# Altium footprint library SamacSys.PcbLib: 17 footprints (part 1 of 2)
Each footprint in its own frame and in the unit in brackets; x right, y up, seen from the top. Pads: shape width x height; smd on the part's side, far side on the other; paste and mask are expansions set on the pad; w line width, h text height; cw(c..) or ccw(c..) is an arc to the next point about the centre after c.
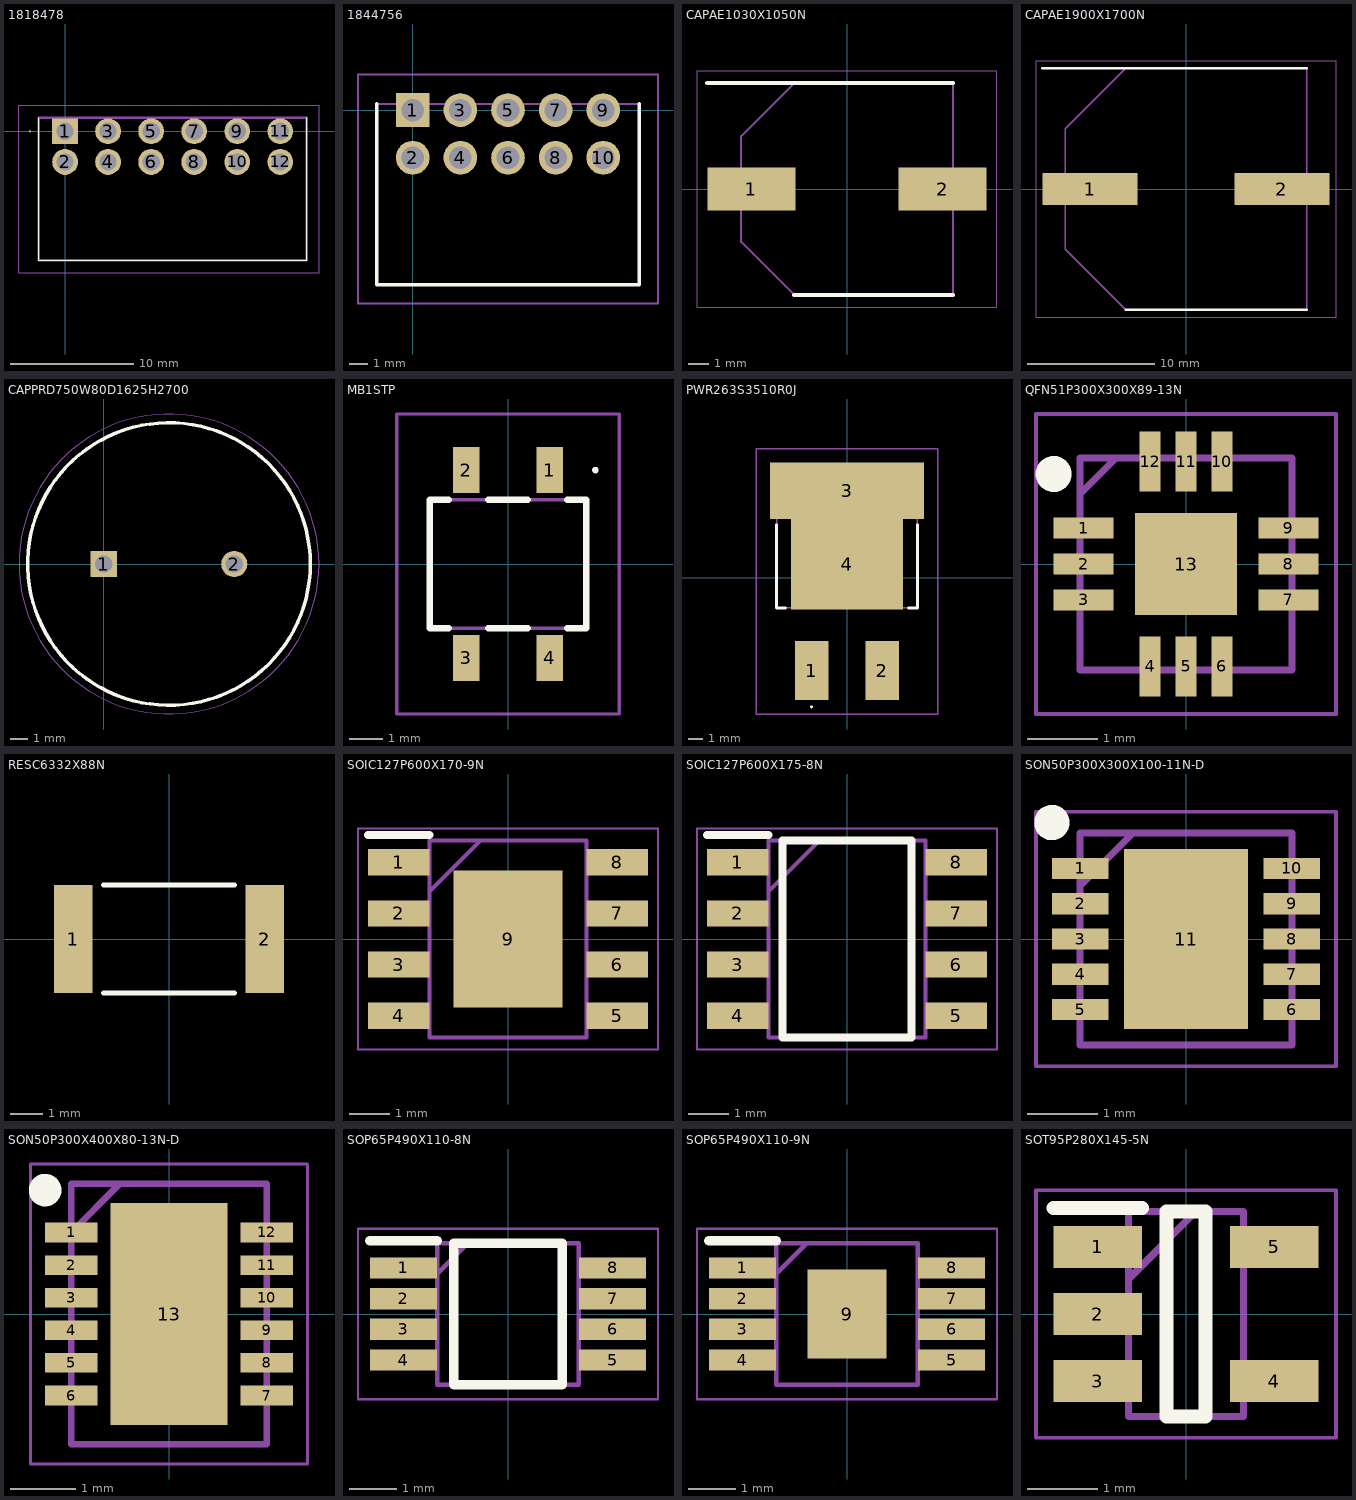
[diagram p0: the footprints below, top view; thin cyan lines are the x and y axes]

## 1818478 [mm]
pads (12):
  rect 2.1x2.1 hole 1.4: 1(0,0)
  round 2.1 hole 1.4: 2(0,-2.5) 3(3.5,0) 4(3.5,-2.5) 5(7,0) 6(7,-2.5) 7(10.5,0) 8(10.5,-2.5) 9(14,0) 10(14,-2.5) 11(17.5,0) 12(17.5,-2.5)
Top Overlay:
  lines w0.05: -2.875,0 cw(c-2.85,0) -2.825,0 cw(c-2.85,0) -2.875,0
  lines w0.1: -2.15,1.1 -2.15,-10.5 19.65,-10.5 19.65,1.1
Mechanical 13:
  lines w0.2: -2.15,-10.5 -2.15,1.1 19.65,1.1 19.65,-10.5 -2.15,-10.5
Mechanical 15:
  lines w0.05: -3.75,-11.5 -3.75,2.1 20.65,2.1 20.65,-11.5 -3.75,-11.5
3D body "1818478.stp": height 10.69, standoff -2.11, extent -2.27,-10.51 19.53,1.09

## 1844756 [mm]
pads (10):
  rect 1.8x1.8 hole 1.2: 1(0,0)
  round 1.8 hole 1.2: 2(0,-2.54) 3(2.54,0) 4(2.54,-2.54) 5(5.08,0) 6(5.08,-2.54) 7(7.62,0) 8(7.62,-2.54) 9(10.16,0) 10(10.16,-2.54)
Top Overlay:
  lines w0.2: -1.92,0.32 -1.92,-9.32 12.08,-9.32 12.08,0 12.08,0.32
Mechanical 13:
  lines w0.1: -1.92,-9.32 -1.92,0.32 12.08,0.32 12.08,-9.32 -1.92,-9.32
Mechanical 15:
  lines w0.1: -2.92,-10.32 -2.92,1.9 13.08,1.9 13.08,-10.32 -2.92,-10.32
3D body "1844756.stp": height 7.42, standoff -1.97, extent -1.92,-9.28 12.08,0.64

## CAPAE1030X1050N [mm]
pads (2):
  rect 4.3x2.1 smd: 1(-4.65,0) 2(4.65,0)
Top Overlay:
  lines w0.2: -6.8,5.15 5.15,5.15 ; -2.575,-5.15 5.15,-5.15
Mechanical 13:
  lines w0.1: -5.15,-2.575 -2.575,-5.15 5.15,-5.15 5.15,5.15 -2.575,5.15 -5.15,2.575 -5.15,-2.575
Mechanical 15:
  lines w0.05: -7.3,-5.75 -7.3,5.75 7.3,5.75 7.3,-5.75 -7.3,-5.75
3D body "ATB687M016.stp": height 10.5, standoff 0, extent -6,-5.25 6,5.25

## CAPAE1900X1700N [mm]
pads (2):
  rect 7.5x2.5 smd: 1(-7.55,0) 2(7.55,0)
Top Overlay:
  lines w0.2: -11.3,9.5 9.5,9.5 ; -4.75,-9.5 9.5,-9.5
Mechanical 13:
  lines w0.1: -9.5,-4.75 -4.75,-9.5 9.5,-9.5 9.5,9.5 -4.75,9.5 -9.5,4.75 -9.5,-4.75
Mechanical 15:
  lines w0.05: -11.8,-10.1 -11.8,10.1 11.8,10.1 11.8,-10.1 -11.8,-10.1
3D body "ATB108M050L165.stp": height 17, standoff 0, extent -10.5,-9.6 10.5,9.6

## CAPPRD750W80D1625H2700 [mm]
pads (2):
  rect 1.5x1.5 hole 1: 1(0,0)
  round 1.5 hole 1: 2(7.5,0)
Top Overlay:
  circle w0.2: c3.75,0 r8.125
Mechanical 13:
  circle w0.1: c3.75,0 r8.125
Mechanical 15:
  circle w0.05: c3.75,0 r8.625
3D body "108CKE063M.stp": height 27, standoff -10, extent -4.5,-8.25 12,8.25

## MB1STP [mm]
pads (4):
  rect 0.8x1.4 smd: 1(1.27,2.85) 2(-1.27,2.85) 3(-1.27,-2.85) 4(1.27,-2.85)
Top Overlay:
  lines w0.1: 2.6,2.85 cw(c2.65,2.85) 2.7,2.85 cw(c2.65,2.85) 2.6,2.85
  lines w0.2: -1.8,-1.95 -2.375,-1.95 -2.375,1.95 -1.8,1.95 ; -0.6,-1.95 0.6,-1.95 ; -0.6,1.95 0.6,1.95 ; 1.8,-1.95 2.375,-1.95 2.375,1.95 1.8,1.95
Mechanical 13:
  lines w0.1: -2.375,-1.95 2.375,-1.95 2.375,1.95 -2.375,1.95 -2.375,-1.95
Mechanical 15:
  lines w0.1: -3.375,-4.55 3.375,-4.55 3.375,4.55 -3.375,4.55 -3.375,-4.55

## PWR263S3510R0J [mm]
pads (4):
  rect 2.4x4.23 smd: 1(-2.54,-6.643) 2(2.54,-6.643)
  rect 11x4.02 smd: 3(0,6.232)
  rect 8x6.5 smd: 4(0,0.973)
Top Overlay:
  lines w0.1: -2.54,-9.3 cw(c-2.54,-9.25) -2.54,-9.2 cw(c-2.54,-9.25) -2.54,-9.3
  lines w0.2: -5.05,3.8 -5.05,-2.158 -4.4,-2.158 ; 4.4,-2.158 5.05,-2.158 5.05,3.8
Mechanical 13:
  lines w0.1: -5.05,-2.158 -5.05,6.643 5.05,6.643 5.05,-2.158 -5.05,-2.158
Mechanical 15:
  lines w0.1: -6.5,-9.758 -6.5,9.242 6.5,9.242 6.5,-9.758 -6.5,-9.758

## QFN51P300X300X89-13N [mm]
pads (13):
  rect 0.85x0.3 smd: 1(-1.45,0.51) 2(-1.45,0) 3(-1.45,-0.51) 7(1.45,-0.51) 8(1.45,0) 9(1.45,0.51)
  rect 0.3x0.85 smd: 4(-0.51,-1.45) 5(0,-1.45) 6(0.51,-1.45) 10(0.51,1.45) 11(0,1.45) 12(-0.51,1.45)
  rect 1.45x1.45 smd: 13(0,0)
Top Overlay:
  circle w0.255: c-1.876,1.275 r0.128
Mechanical 13:
  lines w0.1: -1.5,0.99 -0.99,1.5 ; -1.5,-1.5 -1.5,1.5 1.5,1.5 1.5,-1.5 -1.5,-1.5
Mechanical 15:
  lines w0.05: -2.125,-2.125 -2.125,2.125 2.125,2.125 2.125,-2.125 -2.125,-2.125
3D body "PMA3-43-1W+.stp": height 0.89, standoff 0, extent -1.5,-1.5 1.5,1.5

## RESC6332X88N [mil]
pads (2):
  rect 47x132 smd: 1(-117,0) 2(117,0)
Top Overlay:
  lines w6: -80,-66 80,-66 ; -80,66 80,66
3D body "WSL2512R4000FEB.stp": height 25, standoff 0, extent -125,-62.6 125,62.6

## SOIC127P600X170-9N [mm]
pads (9):
  rect 1.525x0.65 smd: 1(-2.712,1.905) 2(-2.712,0.635) 3(-2.712,-0.635) 4(-2.712,-1.905) 5(2.712,-1.905) 6(2.712,-0.635) 7(2.712,0.635) 8(2.712,1.905)
  rect 2.71x3.4 smd: 9(0,0)
Top Overlay:
  lines w0.2: -3.475,2.58 -1.95,2.58
Mechanical 13:
  lines w0.1: -1.95,1.18 -0.68,2.45 ; -1.95,-2.45 -1.95,2.45 1.95,2.45 1.95,-2.45 -1.95,-2.45
Mechanical 15:
  lines w0.05: -3.725,-2.75 -3.725,2.75 3.725,2.75 3.725,-2.75 -3.725,-2.75
3D body "LMH6321MRX_NOPB.stp": height 1.57, standoff 0, extent -3.014,-2.45 3.014,2.45

## SOIC127P600X175-8N [mm]
pads (8):
  rect 1.525x0.65 smd: 1(-2.712,1.905) 2(-2.712,0.635) 3(-2.712,-0.635) 4(-2.712,-1.905) 5(2.712,-1.905) 6(2.712,-0.635) 7(2.712,0.635) 8(2.712,1.905)
Top Overlay:
  lines w0.2: -3.475,2.58 -1.95,2.58 ; -1.6,-2.45 1.6,-2.45 1.6,2.45 -1.6,2.45 -1.6,-2.45
Mechanical 13:
  lines w0.1: -1.95,1.18 -0.68,2.45 ; -1.95,-2.45 1.95,-2.45 1.95,2.45 -1.95,2.45 -1.95,-2.45
Mechanical 15:
  lines w0.05: -3.725,-2.75 3.725,-2.75 3.725,2.75 -3.725,2.75 -3.725,-2.75
3D body "NE555DR.stp": height 1.75, standoff 0, extent -3,-2.45 3,2.45

## SON50P300X300X100-11N-D [mm]
pads (11):
  rect 0.8x0.3 smd: 1(-1.5,1) 2(-1.5,0.5) 3(-1.5,0) 4(-1.5,-0.5) 5(-1.5,-1) 6(1.5,-1) 7(1.5,-0.5) 8(1.5,0) 9(1.5,0.5) 10(1.5,1)
  rect 1.75x2.55 smd: 11(0,0)
Top Overlay:
  circle w0.25: c-1.9,1.65 r0.125
Mechanical 13:
  lines w0.1: -1.5,0.75 -0.75,1.5 ; -1.5,-1.5 -1.5,1.5 1.5,1.5 1.5,-1.5 -1.5,-1.5
Mechanical 15:
  lines w0.05: -2.125,-1.8 -2.125,1.8 2.125,1.8 2.125,-1.8 -2.125,-1.8
3D body "MP5000ADQ-LF-P.stp": height 1, standoff 0, extent -1.55,-1.5 1.55,1.5

## SON50P300X400X80-13N-D [mm]
pads (13):
  rect 0.8x0.3 smd: 1(-1.5,1.25) 2(-1.5,0.75) 3(-1.5,0.25) 4(-1.5,-0.25) 5(-1.5,-0.75) 6(-1.5,-1.25) 7(1.5,-1.25) 8(1.5,-0.75) 9(1.5,-0.25) 10(1.5,0.25) 11(1.5,0.75) 12(1.5,1.25)
  rect 1.8x3.4 smd: 13(0,0)
Top Overlay:
  circle w0.25: c-1.9,1.9 r0.125
Mechanical 13:
  lines w0.1: -1.5,1.25 -0.75,2 ; -1.5,-2 -1.5,2 1.5,2 1.5,-2 -1.5,-2
Mechanical 15:
  lines w0.05: -2.125,-2.3 -2.125,2.3 2.125,2.3 2.125,-2.3 -2.125,-2.3
3D body "LTC3122EDE#PBF.stp": height 0.8, standoff 0, extent -1.55,-2 1.55,2

## SOP65P490X110-8N [mm]
pads (8):
  rect 1.425x0.45 smd: 1(-2.212,0.975) 2(-2.212,0.325) 3(-2.212,-0.325) 4(-2.212,-0.975) 5(2.212,-0.975) 6(2.212,-0.325) 7(2.212,0.325) 8(2.212,0.975)
Top Overlay:
  lines w0.2: -2.925,1.55 -1.5,1.55 ; -1.15,-1.5 -1.15,1.5 1.15,1.5 1.15,-1.5 -1.15,-1.5
Mechanical 13:
  lines w0.1: -1.5,0.85 -0.85,1.5 ; -1.5,-1.5 -1.5,1.5 1.5,1.5 1.5,-1.5 -1.5,-1.5
Mechanical 15:
  lines w0.05: -3.175,-1.801 -3.175,1.801 3.175,1.801 3.175,-1.801 -3.175,-1.801
3D body "LTC6269IMS8E-10#TRPBF.stp": height 1.1, standoff 0, extent -2.45,-1.5 2.45,1.5

## SOP65P490X110-9N [mm]
pads (9):
  rect 1.425x0.45 smd: 1(-2.212,0.975) 2(-2.212,0.325) 3(-2.212,-0.325) 4(-2.212,-0.975) 5(2.212,-0.975) 6(2.212,-0.325) 7(2.212,0.325) 8(2.212,0.975)
  rect 1.68x1.88 smd: 9(0,0)
Top Overlay:
  lines w0.2: -2.925,1.55 -1.5,1.55
Mechanical 13:
  lines w0.1: -1.5,0.85 -0.85,1.5 ; -1.5,-1.5 -1.5,1.5 1.5,1.5 1.5,-1.5 -1.5,-1.5
Mechanical 15:
  lines w0.05: -3.175,-1.801 -3.175,1.801 3.175,1.801 3.175,-1.801 -3.175,-1.801
3D body "LTC6269IMS8E#PBF.stp": height 1.1, standoff 0, extent -2.45,-1.5 2.45,1.5

## SOT95P280X145-5N [mm]
pads (5):
  rect 1.25x0.6 smd: 1(-1.25,0.95) 2(-1.25,0) 3(-1.25,-0.95) 4(1.25,-0.95) 5(1.25,0.95)
Top Overlay:
  lines w0.2: -1.875,1.5 -0.625,1.5 ; -0.275,-1.45 -0.275,1.45 0.275,1.45 0.275,-1.45 -0.275,-1.45
Mechanical 13:
  lines w0.1: -0.812,0.5 0.138,1.45 ; -0.812,-1.45 -0.812,1.45 0.812,1.45 0.812,-1.45 -0.812,-1.45
Mechanical 15:
  lines w0.05: -2.125,-1.75 -2.125,1.75 2.125,1.75 2.125,-1.75 -2.125,-1.75
3D body "DS4303R+T&R.stp": height 1.3, standoff -0.15, extent -1.528,-1.5 1.528,1.5